# Altium schematic symbol library TPS630250.Schlib: 1 symbol
Pins are listed as number, name and electrical type; pins without a type are passive.

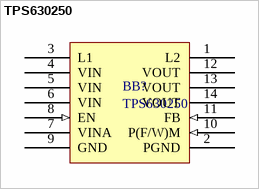
[diagram p0: symbol TPS630250]

## TPS630250
designator BB?
Buck-boost converter
footprint RNC0014A
pins: 1 L2 (power), 2 PGND (power), 3 L1 (power), 4 VIN (power), 5 VIN (power), 6 VIN (power), 7 VINA (power), 8 EN (in), 9 GND (power), 10 P(F/W)M (in), 11 FB (in), 12 VOUT, 13 VOUT, 14 VOUT